# Altium integrated library ON Semi Triacs.IntLib: 233 symbols (part 1 of 5)
Pins are listed as number, name and electrical type; pins without a type are passive.

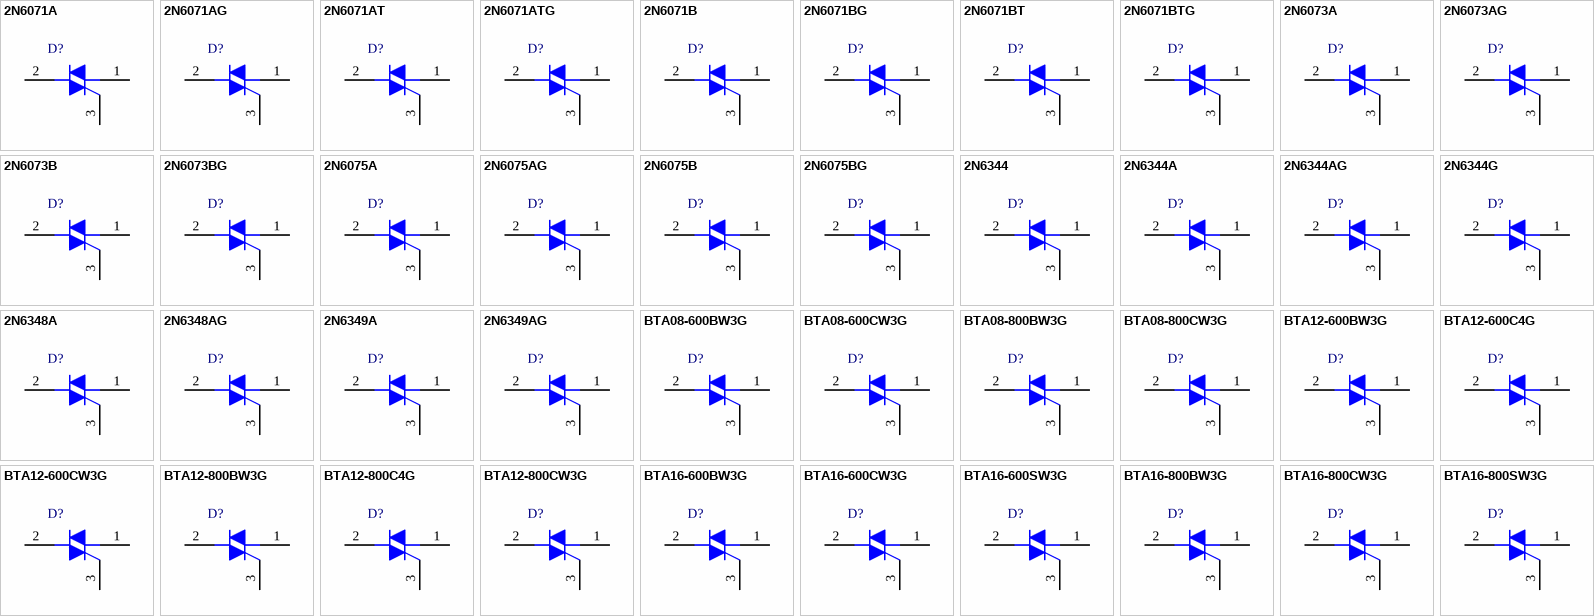
[diagram p0: symbols 2N6071A to BTA16-800SW3G]

## 2N6071A
designator D?
Sensitive Gate Triacs, Silicon Bidirectional Thyristor, 3-Pin TO-225, Bulk Box; Manufacturer: On Semiconductor; PartNumber: 2N6071A; IT(RMS) Max (A): 4; ITSM Max (A): 30; DatasheetVersion: Rev. 8; PackageVersion: Rev. Z; PackageReference: TO-225-3-77-09; PackageDescription: 3-Pin Flange Mount, Vertical Straight Lead, Body 7.62 x 2.54 mm, Pitch 2.39 mm; Packing: Bulk Box; Mounting Technology: Through Hole; ComponentLink1Description: Manufacturer URL; ComponentLink1URL: http://www.onsemi.com/; ComponentLink2Description: Datasheet; ComponentLink2URL: http://www.onsemi.com/pub_link/Collateral/2N6071-D.PDF; ComponentLink3Description: Package Specification; ComponentLink3URL: http://www.onsemi.cn/pub_link/Collateral/C106-D.PDF
footprint ONSC-TO-225-3-77-09_Z (FM, 3-Leads, Body 7.75x2.7mm, Pitch 2.39mm)
pins: 1 MT1, 2 MT2, 3 G

## 2N6071AG
designator D?
Sensitive Gate Triacs, Silicon Bidirectional Thyristor, 3-Pin TO-225, Pb-Free, Bulk Box; Manufacturer: On Semiconductor; PartNumber: 2N6071AG; IT(RMS) Max (A): 4; ITSM Max (A): 30; DatasheetVersion: Rev. 8; PackageVersion: Rev. Z; PackageReference: TO-225-3-77-09; PackageDescription: 3-Pin Flange Mount, Vertical Straight Lead, Body 7.62 x 2.54 mm, Pitch 2.39 mm; Supplier 1: Digi-Key; Supplier Part Number 1: 2N6071AGOS-ND; Supplier 2: Farnell; Supplier Part Number 2: 1459024; Supplier 3: Newark; Supplier Part Number 3: 26K5310; Supplier 4: Mouser; Supplier Part Number 4: 863-2N6071AG; Packing: Bulk Box; RoHS: Pb-Free; Mounting Technology: Through Hole; ComponentLink1Description: Manufacturer URL; ComponentLink1URL: http://www.onsemi.com/; ComponentLink2Description: Datasheet; ComponentLink2URL: http://www.onsemi.com/pub_link/Collateral/2N6071-D.PDF; ComponentLink3Description: Package Specification; ComponentLink3URL: http://www.onsemi.cn/pub_link/Collateral/C106-D.PDF
footprint ONSC-TO-225-3-77-09_Z (FM, 3-Leads, Body 7.75x2.7mm, Pitch 2.39mm)
pins: 1 MT1, 2 MT2, 3 G

## 2N6071AT
designator D?
Sensitive Gate Triacs, Silicon Bidirectional Thyristor, 3-Pin TO-225, Tube; Manufacturer: On Semiconductor; PartNumber: 2N6071AT; IT(RMS) Max (A): 4; ITSM Max (A): 30; DatasheetVersion: Rev. 8; PackageVersion: Rev. Z; PackageReference: TO-225-3-77-09; PackageDescription: 3-Pin Flange Mount, Vertical Straight Lead, Body 7.62 x 2.54 mm, Pitch 2.39 mm; Supplier 1: Mouser; Supplier Part Number 1: N/A; Packing: Tube; Mounting Technology: Through Hole; ComponentLink1Description: Manufacturer URL; ComponentLink1URL: http://www.onsemi.com/; ComponentLink2Description: Datasheet; ComponentLink2URL: http://www.onsemi.com/pub_link/Collateral/2N6071-D.PDF; ComponentLink3Description: Package Specification; ComponentLink3URL: http://www.onsemi.cn/pub_link/Collateral/C106-D.PDF
footprint ONSC-TO-225-3-77-09_Z (FM, 3-Leads, Body 7.75x2.7mm, Pitch 2.39mm)
pins: 1 MT1, 2 MT2, 3 G

## 2N6071ATG
designator D?
Sensitive Gate Triacs, Silicon Bidirectional Thyristor, 3-Pin TO-225, Pb-Free, Tube; Manufacturer: On Semiconductor; PartNumber: 2N6071ATG; IT(RMS) Max (A): 4; ITSM Max (A): 30; DatasheetVersion: Rev. 8; PackageVersion: Rev. Z; PackageReference: TO-225-3-77-09; PackageDescription: 3-Pin Flange Mount, Vertical Straight Lead, Body 7.62 x 2.54 mm, Pitch 2.39 mm; Supplier 1: Digi-Key; Supplier Part Number 1: 2N6071ATG-ND; Supplier 2: Newark; Supplier Part Number 2: 95M7953; Supplier 3: Mouser; Supplier Part Number 3: 863-2N6071ATG; Packing: Tube; RoHS: Pb-Free; Mounting Technology: Through Hole; ComponentLink1Description: Manufacturer URL; ComponentLink1URL: http://www.onsemi.com/; ComponentLink2Description: Datasheet; ComponentLink2URL: http://www.onsemi.com/pub_link/Collateral/2N6071-D.PDF; ComponentLink3Description: Package Specification; ComponentLink3URL: http://www.onsemi.cn/pub_link/Collateral/C106-D.PDF
footprint ONSC-TO-225-3-77-09_Z (FM, 3-Leads, Body 7.75x2.7mm, Pitch 2.39mm)
pins: 1 MT1, 2 MT2, 3 G

## 2N6071B
designator D?
Sensitive Gate Triacs, Silicon Bidirectional Thyristor, 3-Pin TO-225, Bulk Box; Manufacturer: On Semiconductor; PartNumber: 2N6071B; IT(RMS) Max (A): 4; ITSM Max (A): 30; DatasheetVersion: Rev. 8; PackageVersion: Rev. Z; PackageReference: TO-225-3-77-09; PackageDescription: 3-Pin Flange Mount, Vertical Straight Lead, Body 7.62 x 2.54 mm, Pitch 2.39 mm; Packing: Bulk Box; Mounting Technology: Through Hole; ComponentLink1Description: Manufacturer URL; ComponentLink1URL: http://www.onsemi.com/; ComponentLink2Description: Datasheet; ComponentLink2URL: http://www.onsemi.com/pub_link/Collateral/2N6071-D.PDF; ComponentLink3Description: Package Specification; ComponentLink3URL: http://www.onsemi.cn/pub_link/Collateral/C106-D.PDF
footprint ONSC-TO-225-3-77-09_Z (FM, 3-Leads, Body 7.75x2.7mm, Pitch 2.39mm)
pins: 1 MT1, 2 MT2, 3 G

## 2N6071BG
designator D?
Sensitive Gate Triacs, Silicon Bidirectional Thyristor, 3-Pin TO-225, Pb-Free, Bulk Box; Manufacturer: On Semiconductor; PartNumber: 2N6071BG; IT(RMS) Max (A): 4; ITSM Max (A): 30; DatasheetVersion: Rev. 8; PackageVersion: Rev. Z; PackageReference: TO-225-3-77-09; PackageDescription: 3-Pin Flange Mount, Vertical Straight Lead, Body 7.62 x 2.54 mm, Pitch 2.39 mm; Supplier 1: Digi-Key; Supplier Part Number 1: 2N6071BGOS-ND; Supplier 2: Farnell; Supplier Part Number 2: 1210035; Supplier 3: Newark; Supplier Part Number 3: 45J2502; Supplier 4: Mouser; Supplier Part Number 4: 863-2N6071BG; Packing: Bulk Box; RoHS: Pb-Free; Mounting Technology: Through Hole; ComponentLink1Description: Manufacturer URL; ComponentLink1URL: http://www.onsemi.com/; ComponentLink2Description: Datasheet; ComponentLink2URL: http://www.onsemi.com/pub_link/Collateral/2N6071-D.PDF; ComponentLink3Description: Package Specification; ComponentLink3URL: http://www.onsemi.cn/pub_link/Collateral/C106-D.PDF
footprint ONSC-TO-225-3-77-09_Z (FM, 3-Leads, Body 7.75x2.7mm, Pitch 2.39mm)
pins: 1 MT1, 2 MT2, 3 G

## 2N6071BT
designator D?
Sensitive Gate Triacs, Silicon Bidirectional Thyristor, 3-Pin TO-225, Tube; Manufacturer: On Semiconductor; PartNumber: 2N6071BT; IT(RMS) Max (A): 4; ITSM Max (A): 30; DatasheetVersion: Rev. 8; PackageVersion: Rev. Z; PackageReference: TO-225-3-77-09; PackageDescription: 3-Pin Flange Mount, Vertical Straight Lead, Body 7.62 x 2.54 mm, Pitch 2.39 mm; Supplier 1: Digi-Key; Supplier Part Number 1: 2N6071BT-ND; Packing: Tube; Mounting Technology: Through Hole; ComponentLink1Description: Manufacturer URL; ComponentLink1URL: http://www.onsemi.com/; ComponentLink2Description: Datasheet; ComponentLink2URL: http://www.onsemi.com/pub_link/Collateral/2N6071-D.PDF; ComponentLink3Description: Package Specification; ComponentLink3URL: http://www.onsemi.cn/pub_link/Collateral/C106-D.PDF
footprint ONSC-TO-225-3-77-09_Z (FM, 3-Leads, Body 7.75x2.7mm, Pitch 2.39mm)
pins: 1 MT1, 2 MT2, 3 G

## 2N6071BTG
designator D?
Sensitive Gate Triacs, Silicon Bidirectional Thyristor, 3-Pin TO-225, Pb-Free, Tube; Manufacturer: On Semiconductor; PartNumber: 2N6071BTG; IT(RMS) Max (A): 4; ITSM Max (A): 30; DatasheetVersion: Rev. 8; PackageVersion: Rev. Z; PackageReference: TO-225-3-77-09; PackageDescription: 3-Pin Flange Mount, Vertical Straight Lead, Body 7.62 x 2.54 mm, Pitch 2.39 mm; Supplier 1: Digi-Key; Supplier Part Number 1: 2N6071BTG-ND; Supplier 2: Newark; Supplier Part Number 2: 42K3167; Supplier 3: Mouser; Supplier Part Number 3: 863-2N6071BTG; Packing: Tube; RoHS: Pb-Free; Mounting Technology: Through Hole; ComponentLink1Description: Manufacturer URL; ComponentLink1URL: http://www.onsemi.com/; ComponentLink2Description: Datasheet; ComponentLink2URL: http://www.onsemi.com/pub_link/Collateral/2N6071-D.PDF; ComponentLink3Description: Package Specification; ComponentLink3URL: http://www.onsemi.cn/pub_link/Collateral/C106-D.PDF
footprint ONSC-TO-225-3-77-09_Z (FM, 3-Leads, Body 7.75x2.7mm, Pitch 2.39mm)
pins: 1 MT1, 2 MT2, 3 G

## 2N6073A
designator D?
Sensitive Gate Triacs, Silicon Bidirectional Thyristor, 3-Pin TO-225, Bulk Box; Manufacturer: On Semiconductor; PartNumber: 2N6073A; IT(RMS) Max (A): 4; ITSM Max (A): 30; DatasheetVersion: Rev. 8; PackageVersion: Rev. Z; PackageReference: TO-225-3-77-09; PackageDescription: 3-Pin Flange Mount, Vertical Straight Lead, Body 7.62 x 2.54 mm, Pitch 2.39 mm; Packing: Bulk Box; Mounting Technology: Through Hole; ComponentLink1Description: Manufacturer URL; ComponentLink1URL: http://www.onsemi.com/; ComponentLink2Description: Datasheet; ComponentLink2URL: http://www.onsemi.com/pub_link/Collateral/2N6071-D.PDF; ComponentLink3Description: Package Specification; ComponentLink3URL: http://www.onsemi.cn/pub_link/Collateral/C106-D.PDF
footprint ONSC-TO-225-3-77-09_Z (FM, 3-Leads, Body 7.75x2.7mm, Pitch 2.39mm)
pins: 1 MT1, 2 MT2, 3 G

## 2N6073AG
designator D?
Sensitive Gate Triacs, Silicon Bidirectional Thyristor, 3-Pin TO-225, Pb-Free, Bulk Box; Manufacturer: On Semiconductor; PartNumber: 2N6073AG; IT(RMS) Max (A): 4; ITSM Max (A): 30; DatasheetVersion: Rev. 8; PackageVersion: Rev. Z; PackageReference: TO-225-3-77-09; PackageDescription: 3-Pin Flange Mount, Vertical Straight Lead, Body 7.62 x 2.54 mm, Pitch 2.39 mm; Supplier 1: Digi-Key; Supplier Part Number 1: 2N6073AGOS-ND; Supplier 2: Farnell; Supplier Part Number 2: 9556559; Supplier 3: Newark; Supplier Part Number 3: 26K5311; Supplier 4: Mouser; Supplier Part Number 4: 863-2N6073AG; Packing: Bulk Box; RoHS: Pb-Free; Mounting Technology: Through Hole; ComponentLink1Description: Manufacturer URL; ComponentLink1URL: http://www.onsemi.com/; ComponentLink2Description: Datasheet; ComponentLink2URL: http://www.onsemi.com/pub_link/Collateral/2N6071-D.PDF; ComponentLink3Description: Package Specification; ComponentLink3URL: http://www.onsemi.cn/pub_link/Collateral/C106-D.PDF
footprint ONSC-TO-225-3-77-09_Z (FM, 3-Leads, Body 7.75x2.7mm, Pitch 2.39mm)
pins: 1 MT1, 2 MT2, 3 G

## 2N6073B
designator D?
Sensitive Gate Triacs, Silicon Bidirectional Thyristor, 3-Pin TO-225, Bulk Box; Manufacturer: On Semiconductor; PartNumber: 2N6073B; IT(RMS) Max (A): 4; ITSM Max (A): 30; DatasheetVersion: Rev. 8; PackageVersion: Rev. Z; PackageReference: TO-225-3-77-09; PackageDescription: 3-Pin Flange Mount, Vertical Straight Lead, Body 7.62 x 2.54 mm, Pitch 2.39 mm; Packing: Bulk Box; Mounting Technology: Through Hole; ComponentLink1Description: Manufacturer URL; ComponentLink1URL: http://www.onsemi.com/; ComponentLink2Description: Datasheet; ComponentLink2URL: http://www.onsemi.com/pub_link/Collateral/2N6071-D.PDF; ComponentLink3Description: Package Specification; ComponentLink3URL: http://www.onsemi.cn/pub_link/Collateral/C106-D.PDF
footprint ONSC-TO-225-3-77-09_Z (FM, 3-Leads, Body 7.75x2.7mm, Pitch 2.39mm)
pins: 1 MT1, 2 MT2, 3 G

## 2N6073BG
designator D?
Sensitive Gate Triacs, Silicon Bidirectional Thyristor, 3-Pin TO-225, Pb-Free, Bulk Box; Manufacturer: On Semiconductor; PartNumber: 2N6073BG; IT(RMS) Max (A): 4; ITSM Max (A): 30; DatasheetVersion: Rev. 8; PackageVersion: Rev. Z; PackageReference: TO-225-3-77-09; PackageDescription: 3-Pin Flange Mount, Vertical Straight Lead, Body 7.62 x 2.54 mm, Pitch 2.39 mm; Supplier 1: Digi-Key; Supplier Part Number 1: 2N6073BGOS-ND; Supplier 2: Farnell; Supplier Part Number 2: 1126534; Supplier 3: Newark; Supplier Part Number 3: 45J2503; Supplier 4: Mouser; Supplier Part Number 4: 863-2N6073BG; Packing: Bulk Box; RoHS: Pb-Free; Mounting Technology: Through Hole; ComponentLink1Description: Manufacturer URL; ComponentLink1URL: http://www.onsemi.com/; ComponentLink2Description: Datasheet; ComponentLink2URL: http://www.onsemi.com/pub_link/Collateral/2N6071-D.PDF; ComponentLink3Description: Package Specification; ComponentLink3URL: http://www.onsemi.cn/pub_link/Collateral/C106-D.PDF
footprint ONSC-TO-225-3-77-09_Z (FM, 3-Leads, Body 7.75x2.7mm, Pitch 2.39mm)
pins: 1 MT1, 2 MT2, 3 G

## 2N6075A
designator D?
Sensitive Gate Triacs, Silicon Bidirectional Thyristor, 3-Pin TO-225, Bulk Box; Manufacturer: On Semiconductor; PartNumber: 2N6075A; IT(RMS) Max (A): 4; ITSM Max (A): 30; DatasheetVersion: Rev. 8; PackageVersion: Rev. Z; PackageReference: TO-225-3-77-09; PackageDescription: 3-Pin Flange Mount, Vertical Straight Lead, Body 7.62 x 2.54 mm, Pitch 2.39 mm; Packing: Bulk Box; Mounting Technology: Through Hole; ComponentLink1Description: Manufacturer URL; ComponentLink1URL: http://www.onsemi.com/; ComponentLink2Description: Datasheet; ComponentLink2URL: http://www.onsemi.com/pub_link/Collateral/2N6071-D.PDF; ComponentLink3Description: Package Specification; ComponentLink3URL: http://www.onsemi.cn/pub_link/Collateral/C106-D.PDF
footprint ONSC-TO-225-3-77-09_Z (FM, 3-Leads, Body 7.75x2.7mm, Pitch 2.39mm)
pins: 1 MT1, 2 MT2, 3 G

## 2N6075AG
designator D?
Sensitive Gate Triacs, Silicon Bidirectional Thyristor, 3-Pin TO-225, Pb-Free, Bulk Box; Manufacturer: On Semiconductor; PartNumber: 2N6075AG; IT(RMS) Max (A): 4; ITSM Max (A): 30; DatasheetVersion: Rev. 8; PackageVersion: Rev. Z; PackageReference: TO-225-3-77-09; PackageDescription: 3-Pin Flange Mount, Vertical Straight Lead, Body 7.62 x 2.54 mm, Pitch 2.39 mm; Supplier 1: Digi-Key; Supplier Part Number 1: 2N6075AGOS-ND; Supplier 2: Farnell; Supplier Part Number 2: 9556567; Supplier 3: Newark; Supplier Part Number 3: 45J2504; Supplier 4: Mouser; Supplier Part Number 4: 863-2N6075AG; Packing: Bulk Box; RoHS: Pb-Free; Mounting Technology: Through Hole; ComponentLink1Description: Manufacturer URL; ComponentLink1URL: http://www.onsemi.com/; ComponentLink2Description: Datasheet; ComponentLink2URL: http://www.onsemi.com/pub_link/Collateral/2N6071-D.PDF; ComponentLink3Description: Package Specification; ComponentLink3URL: http://www.onsemi.cn/pub_link/Collateral/C106-D.PDF
footprint ONSC-TO-225-3-77-09_Z (FM, 3-Leads, Body 7.75x2.7mm, Pitch 2.39mm)
pins: 1 MT1, 2 MT2, 3 G

## 2N6075B
designator D?
Sensitive Gate Triacs, Silicon Bidirectional Thyristor, 3-Pin TO-225, Bulk Box; Manufacturer: On Semiconductor; PartNumber: 2N6075B; IT(RMS) Max (A): 4; ITSM Max (A): 30; DatasheetVersion: Rev. 8; PackageVersion: Rev. Z; PackageReference: TO-225-3-77-09; PackageDescription: 3-Pin Flange Mount, Vertical Straight Lead, Body 7.62 x 2.54 mm, Pitch 2.39 mm; Packing: Bulk Box; Mounting Technology: Through Hole; ComponentLink1Description: Manufacturer URL; ComponentLink1URL: http://www.onsemi.com/; ComponentLink2Description: Datasheet; ComponentLink2URL: http://www.onsemi.com/pub_link/Collateral/2N6071-D.PDF; ComponentLink3Description: Package Specification; ComponentLink3URL: http://www.onsemi.cn/pub_link/Collateral/C106-D.PDF
footprint ONSC-TO-225-3-77-09_Z (FM, 3-Leads, Body 7.75x2.7mm, Pitch 2.39mm)
pins: 1 MT1, 2 MT2, 3 G

## 2N6075BG
designator D?
Sensitive Gate Triacs, Silicon Bidirectional Thyristor, 3-Pin TO-225, Pb-Free, Bulk Box; Manufacturer: On Semiconductor; PartNumber: 2N6075BG; IT(RMS) Max (A): 4; ITSM Max (A): 30; DatasheetVersion: Rev. 8; PackageVersion: Rev. Z; PackageReference: TO-225-3-77-09; PackageDescription: 3-Pin Flange Mount, Vertical Straight Lead, Body 7.62 x 2.54 mm, Pitch 2.39 mm; Supplier 1: Digi-Key; Supplier Part Number 1: 2N6075BGOS-ND; Supplier 2: Farnell; Supplier Part Number 2: 9557229; Supplier 3: Newark; Supplier Part Number 3: 26K5312; Supplier 4: Mouser; Supplier Part Number 4: 863-2N6075BG; Packing: Bulk Box; RoHS: Pb-Free; Mounting Technology: Through Hole; ComponentLink1Description: Manufacturer URL; ComponentLink1URL: http://www.onsemi.com/; ComponentLink2Description: Datasheet; ComponentLink2URL: http://www.onsemi.com/pub_link/Collateral/2N6071-D.PDF; ComponentLink3Description: Package Specification; ComponentLink3URL: http://www.onsemi.cn/pub_link/Collateral/C106-D.PDF
footprint ONSC-TO-225-3-77-09_Z (FM, 3-Leads, Body 7.75x2.7mm, Pitch 2.39mm)
pins: 1 MT1, 2 MT2, 3 G

## 2N6344
designator D?
Triacs, Silicon Bidirectional Thyristor, 3-Pin TO-220, Bulk Box; Manufacturer: On Semiconductor; PartNumber: 2N6344; ITSM Max (A): 100; DatasheetVersion: Rev. 4; PackageVersion: Rev. O, 07/2008; PackageReference: TO-220-3-221A-07; PackageDescription: 3-Pin Flange Mount, Vertical Straight Lead, Body 9.97 x 4.445 mm, Pitch 2.54 mm; Packing: Bulk Box; Mounting Technology: Through Hole; ComponentLink1Description: Manufacturer URL; ComponentLink1URL: http://www.onsemi.com/; ComponentLink2Description: Datasheet; ComponentLink2URL: http://www.onsemi.com/pub_link/Collateral/2N6344-D.PDF; ComponentLink3Description: Package Specification; ComponentLink3URL: http://www.onsemi.com/pub_link/Collateral/221A-07.PDF
footprint ONSC-TO-220-3-221A-07 (FM, 3-Leads, Body 10.3x4.85mm, Pitch 2.54mm)
pins: 1 MT1, 2 MT2, 3 G

## 2N6344A
designator D?
Triacs, Silicon Bidirectional Thyristor, 3-Pin TO-220, Bulk Box; Manufacturer: On Semiconductor; PartNumber: 2N6344A; ITSM Max (A): 100; DatasheetVersion: Rev. 4; PackageVersion: Rev. O, 07/2008; PackageReference: TO-220-3-221A-07; PackageDescription: 3-Pin Flange Mount, Vertical Straight Lead, Body 9.97 x 4.445 mm, Pitch 2.54 mm; Packing: Bulk Box; Mounting Technology: Through Hole; ComponentLink1Description: Manufacturer URL; ComponentLink1URL: http://www.onsemi.com/; ComponentLink2Description: Datasheet; ComponentLink2URL: http://www.onsemi.com/pub_link/Collateral/2N6344A-D.PDF; ComponentLink3Description: Package Specification; ComponentLink3URL: http://www.onsemi.com/pub_link/Collateral/221A-07.PDF
footprint ONSC-TO-220-3-221A-07 (FM, 3-Leads, Body 10.3x4.85mm, Pitch 2.54mm)
pins: 1 MT1, 2 MT2, 3 G

## 2N6344AG
designator D?
Triacs, Silicon Bidirectional Thyristor, 3-Pin TO-220, Pb-Free, Bulk Box; Manufacturer: On Semiconductor; PartNumber: 2N6344AG; ITSM Max (A): 100; DatasheetVersion: Rev. 4; PackageVersion: Rev. O, 07/2008; PackageReference: TO-220-3-221A-07; PackageDescription: 3-Pin Flange Mount, Vertical Straight Lead, Body 9.97 x 4.445 mm, Pitch 2.54 mm; Supplier 1: Digi-Key; Supplier Part Number 1: 2N6344AGOS-ND; Supplier 2: Farnell; Supplier Part Number 2: 1454634; Supplier 3: Newark; Supplier Part Number 3: 42K3172; Supplier 4: Mouser; Supplier Part Number 4: 863-2N6344AG; Packing: Bulk Box; RoHS: Pb-Free; Mounting Technology: Through Hole; ComponentLink1Description: Manufacturer URL; ComponentLink1URL: http://www.onsemi.com/; ComponentLink2Description: Datasheet; ComponentLink2URL: http://www.onsemi.com/pub_link/Collateral/2N6344A-D.PDF; ComponentLink3Description: Package Specification; ComponentLink3URL: http://www.onsemi.com/pub_link/Collateral/221A-07.PDF
footprint ONSC-TO-220-3-221A-07 (FM, 3-Leads, Body 10.3x4.85mm, Pitch 2.54mm)
pins: 1 MT1, 2 MT2, 3 G

## 2N6344G
designator D?
Triacs, Silicon Bidirectional Thyristor, 3-Pin TO-220, Pb-Free, Bulk Box; Manufacturer: On Semiconductor; PartNumber: 2N6344G; ITSM Max (A): 100; DatasheetVersion: Rev. 4; PackageVersion: Rev. O, 07/2008; PackageReference: TO-220-3-221A-07; PackageDescription: 3-Pin Flange Mount, Vertical Straight Lead, Body 9.97 x 4.445 mm, Pitch 2.54 mm; Supplier 1: Digi-Key; Supplier Part Number 1: 2N6344GOS-ND; Supplier 2: Farnell; Supplier Part Number 2: 1716565; Supplier 3: Newark; Supplier Part Number 3: 42K3173; Supplier 4: Mouser; Supplier Part Number 4: 863-2N6344G; Packing: Bulk Box; RoHS: Pb-Free; Mounting Technology: Through Hole; ComponentLink1Description: Manufacturer URL; ComponentLink1URL: http://www.onsemi.com/; ComponentLink2Description: Datasheet; ComponentLink2URL: http://www.onsemi.com/pub_link/Collateral/2N6344-D.PDF; ComponentLink3Description: Package Specification; ComponentLink3URL: http://www.onsemi.com/pub_link/Collateral/221A-07.PDF
footprint ONSC-TO-220-3-221A-07 (FM, 3-Leads, Body 10.3x4.85mm, Pitch 2.54mm)
pins: 1 MT1, 2 MT2, 3 G

## 2N6348A
designator D?
Triacs, Silicon Bidirectional Thyristor, 3-Pin TO-220, Bulk Box; Manufacturer: On Semiconductor; PartNumber: 2N6348A; ITSM Max (A): 100; DatasheetVersion: Rev. 4; PackageVersion: Rev. O, 07/2008; PackageReference: TO-220-3-221A-07; PackageDescription: 3-Pin Flange Mount, Vertical Straight Lead, Body 9.97 x 4.445 mm, Pitch 2.54 mm; Packing: Bulk Box; Mounting Technology: Through Hole; ComponentLink1Description: Manufacturer URL; ComponentLink1URL: http://www.onsemi.com/; ComponentLink2Description: Datasheet; ComponentLink2URL: http://www.onsemi.com/pub_link/Collateral/2N6344A-D.PDF; ComponentLink3Description: Package Specification; ComponentLink3URL: http://www.onsemi.com/pub_link/Collateral/221A-07.PDF
footprint ONSC-TO-220-3-221A-07 (FM, 3-Leads, Body 10.3x4.85mm, Pitch 2.54mm)
pins: 1 MT1, 2 MT2, 3 G

## 2N6348AG
designator D?
Triacs, Silicon Bidirectional Thyristor, 3-Pin TO-220, Pb-Free, Bulk Box; Manufacturer: On Semiconductor; PartNumber: 2N6348AG; ITSM Max (A): 100; DatasheetVersion: Rev. 4; PackageVersion: Rev. O, 07/2008; PackageReference: TO-220-3-221A-07; PackageDescription: 3-Pin Flange Mount, Vertical Straight Lead, Body 9.97 x 4.445 mm, Pitch 2.54 mm; Supplier 1: Digi-Key; Supplier Part Number 1: 2N6348AGOS-ND; Supplier 2: Farnell; Supplier Part Number 2: 1360709; Supplier 3: Newark; Supplier Part Number 3: 42K3174; Supplier 4: Mouser; Supplier Part Number 4: 863-2N6348AG; Packing: Bulk Box; RoHS: Pb-Free; Mounting Technology: Through Hole; ComponentLink1Description: Manufacturer URL; ComponentLink1URL: http://www.onsemi.com/; ComponentLink2Description: Datasheet; ComponentLink2URL: http://www.onsemi.com/pub_link/Collateral/2N6344A-D.PDF; ComponentLink3Description: Package Specification; ComponentLink3URL: http://www.onsemi.com/pub_link/Collateral/221A-07.PDF
footprint ONSC-TO-220-3-221A-07 (FM, 3-Leads, Body 10.3x4.85mm, Pitch 2.54mm)
pins: 1 MT1, 2 MT2, 3 G

## 2N6349A
designator D?
Triacs, Silicon Bidirectional Thyristor, 3-Pin TO-220, Bulk Box; Manufacturer: On Semiconductor; PartNumber: 2N6349A; ITSM Max (A): 100; DatasheetVersion: Rev. 4; PackageVersion: Rev. O, 07/2008; PackageReference: TO-220-3-221A-07; PackageDescription: 3-Pin Flange Mount, Vertical Straight Lead, Body 9.97 x 4.445 mm, Pitch 2.54 mm; Packing: Bulk Box; Mounting Technology: Through Hole; ComponentLink1Description: Manufacturer URL; ComponentLink1URL: http://www.onsemi.com/; ComponentLink2Description: Datasheet; ComponentLink2URL: http://www.onsemi.com/pub_link/Collateral/2N6344A-D.PDF; ComponentLink3Description: Package Specification; ComponentLink3URL: http://www.onsemi.com/pub_link/Collateral/221A-07.PDF
footprint ONSC-TO-220-3-221A-07 (FM, 3-Leads, Body 10.3x4.85mm, Pitch 2.54mm)
pins: 1 MT1, 2 MT2, 3 G

## 2N6349AG
designator D?
Triacs, Silicon Bidirectional Thyristor, 3-Pin TO-220, Pb-Free, Bulk Box; Manufacturer: On Semiconductor; PartNumber: 2N6349AG; ITSM Max (A): 100; DatasheetVersion: Rev. 4; PackageVersion: Rev. O, 07/2008; PackageReference: TO-220-3-221A-07; PackageDescription: 3-Pin Flange Mount, Vertical Straight Lead, Body 9.97 x 4.445 mm, Pitch 2.54 mm; Supplier 1: Digi-Key; Supplier Part Number 1: 2N6349AGOS-ND; Supplier 2: Farnell; Supplier Part Number 2: 1360710; Supplier 3: Newark; Supplier Part Number 3: 42K3175; Supplier 4: Mouser; Supplier Part Number 4: 863-2N6349AG; Packing: Bulk Box; RoHS: Pb-Free; Mounting Technology: Through Hole; ComponentLink1Description: Manufacturer URL; ComponentLink1URL: http://www.onsemi.com/; ComponentLink2Description: Datasheet; ComponentLink2URL: http://www.onsemi.com/pub_link/Collateral/2N6344A-D.PDF; ComponentLink3Description: Package Specification; ComponentLink3URL: http://www.onsemi.com/pub_link/Collateral/221A-07.PDF
footprint ONSC-TO-220-3-221A-07 (FM, 3-Leads, Body 10.3x4.85mm, Pitch 2.54mm)
pins: 1 MT1, 2 MT2, 3 G

## BTA08-600BW3G
designator D?
Triacs, Silicon Bidirectional Thyristor, 3-Pin TO-220, Pb-Free, Tube; Manufacturer: On Semiconductor; PartNumber: BTA08-600BW3G; IGT Max (mA): 50; IT(RMS) Max (A): 8; ITSM Max (A): 90; DatasheetVersion: Rev. 1; PackageVersion: Rev. O, 07/2008; PackageReference: TO-220-3-221A-07; PackageDescription: 3-Pin Flange Mount, Vertical Straight Lead, Body 9.97 x 4.445 mm, Pitch 2.54 mm; Supplier 1: Digi-Key; Supplier Part Number 1: BTA08-600BW3G-ND; Supplier 2: Newark; Supplier Part Number 2: 13P2072; Supplier 3: Mouser; Supplier Part Number 3: 863-BTA08-600BW3G; Packing: Tube; RoHS: Pb-Free; Mounting Technology: Through Hole; ComponentLink1Description: Manufacturer URL; ComponentLink1URL: http://www.onsemi.com/; ComponentLink2Description: Datasheet; ComponentLink2URL: http://www.onsemi.com/pub_link/Collateral/BTA08-600BW3-D.PDF; ComponentLink3Description: Package Specification; ComponentLink3URL: http://www.onsemi.com/pub_link/Collateral/221A-07.PDF
footprint ONSC-TO-220-3-221A-07 (FM, 3-Leads, Body 10.3x4.85mm, Pitch 2.54mm)
pins: 1 MT1, 2 MT2, 3 G

## BTA08-600CW3G
designator D?
Triacs, Silicon Bidirectional Thyristor, 3-Pin TO-220, Pb-Free, Tube; Manufacturer: On Semiconductor; PartNumber: BTA08-600CW3G; IGT Max (mA): 35; IT(RMS) Max (A): 8; ITSM Max (A): 90; DatasheetVersion: Rev. 1; PackageVersion: Rev. O, 07/2008; PackageReference: TO-220-3-221A-07; PackageDescription: 3-Pin Flange Mount, Vertical Straight Lead, Body 9.97 x 4.445 mm, Pitch 2.54 mm; Supplier 1: Digi-Key; Supplier Part Number 1: BTA08-600CW3G-ND; Supplier 2: Newark; Supplier Part Number 2: 13P2073; Supplier 3: Mouser; Supplier Part Number 3: 863-BTA08-600CW3G; Packing: Tube; RoHS: Pb-Free; Mounting Technology: Through Hole; ComponentLink1Description: Manufacturer URL; ComponentLink1URL: http://www.onsemi.com/; ComponentLink2Description: Datasheet; ComponentLink2URL: http://www.onsemi.com/pub_link/Collateral/BTA08-600CW3-D.PDF; ComponentLink3Description: Package Specification; ComponentLink3URL: http://www.onsemi.com/pub_link/Collateral/221A-07.PDF
footprint ONSC-TO-220-3-221A-07 (FM, 3-Leads, Body 10.3x4.85mm, Pitch 2.54mm)
pins: 1 MT1, 2 MT2, 3 G

## BTA08-800BW3G
designator D?
Triacs, Silicon Bidirectional Thyristor, 3-Pin TO-220, Pb-Free, Tube; Manufacturer: On Semiconductor; PartNumber: BTA08-800BW3G; IGT Max (mA): 50; IT(RMS) Max (A): 8; ITSM Max (A): 90; DatasheetVersion: Rev. 1; PackageVersion: Rev. O, 07/2008; PackageReference: TO-220-3-221A-07; PackageDescription: 3-Pin Flange Mount, Vertical Straight Lead, Body 9.97 x 4.445 mm, Pitch 2.54 mm; Supplier 1: Digi-Key; Supplier Part Number 1: BTA08-800BW3G-ND; Supplier 2: Newark; Supplier Part Number 2: 13P2074; Supplier 3: Mouser; Supplier Part Number 3: 863-BTA08-800BW3G; Packing: Tube; RoHS: Pb-Free; Mounting Technology: Through Hole; ComponentLink1Description: Manufacturer URL; ComponentLink1URL: http://www.onsemi.com/; ComponentLink2Description: Datasheet; ComponentLink2URL: http://www.onsemi.com/pub_link/Collateral/BTA08-600BW3-D.PDF; ComponentLink3Description: Package Specification; ComponentLink3URL: http://www.onsemi.com/pub_link/Collateral/221A-07.PDF
footprint ONSC-TO-220-3-221A-07 (FM, 3-Leads, Body 10.3x4.85mm, Pitch 2.54mm)
pins: 1 MT1, 2 MT2, 3 G

## BTA08-800CW3G
designator D?
Triacs, Silicon Bidirectional Thyristor, 3-Pin TO-220, Pb-Free, Tube; Manufacturer: On Semiconductor; PartNumber: BTA08-800CW3G; IGT Max (mA): 35; IT(RMS) Max (A): 8; ITSM Max (A): 90; DatasheetVersion: Rev. 0; PackageVersion: Rev. O, 07/2008; PackageReference: TO-220-3-221A-07; PackageDescription: 3-Pin Flange Mount, Vertical Straight Lead, Body 9.97 x 4.445 mm, Pitch 2.54 mm; Supplier 1: Digi-Key; Supplier Part Number 1: BTA08-800CW3G-ND; Supplier 2: Newark; Supplier Part Number 2: 13P2075; Supplier 3: Mouser; Supplier Part Number 3: 863-BTA08-800CW3G; Packing: Tube; RoHS: Pb-Free; Mounting Technology: Through Hole; ComponentLink1Description: Manufacturer URL; ComponentLink1URL: http://www.onsemi.com/; ComponentLink2Description: Datasheet; ComponentLink2URL: http://www.onsemi.com/pub_link/Collateral/BTA08-800CW3-D.PDF; ComponentLink3Description: Package Specification; ComponentLink3URL: http://www.onsemi.com/pub_link/Collateral/221A-07.PDF
footprint ONSC-TO-220-3-221A-07 (FM, 3-Leads, Body 10.3x4.85mm, Pitch 2.54mm)
pins: 1 MT1, 2 MT2, 3 G

## BTA12-600BW3G
designator D?
Triacs, Silicon Bidirectional Thyristor, 3-Pin TO-220, Pb-Free, Tube; Manufacturer: On Semiconductor; PartNumber: BTA12-600BW3G; IGT Max (mA): 50; IT(RMS) Max (A): 12; ITSM Max (A): 105; DatasheetVersion: Rev. 1; PackageVersion: Rev. O, 07/2008; PackageReference: TO-220-3-221A-07; PackageDescription: 3-Pin Flange Mount, Vertical Straight Lead, Body 9.97 x 4.445 mm, Pitch 2.54 mm; Supplier 1: Digi-Key; Supplier Part Number 1: BTA12-600BW3GOS-ND; Supplier 2: Farnell; Supplier Part Number 2: 2317531; Supplier 3: Newark; Supplier Part Number 3: 90W4277; Supplier 4: Newark; Supplier Part Number 4: 13P2076; Supplier 5: Mouser; Supplier Part Number 5: 863-BTA12-600BW3G; Packing: Tube; RoHS: Pb-Free; Mounting Technology: Through Hole; ComponentLink1Description: Manufacturer URL; ComponentLink1URL: http://www.onsemi.com/; ComponentLink2Description: Datasheet; ComponentLink2URL: http://www.onsemi.com/pub_link/Collateral/BTA12-600BW3-D.PDF; ComponentLink3Description: Package Specification; ComponentLink3URL: http://www.onsemi.com/pub_link/Collateral/221A-07.PDF
footprint ONSC-TO-220-3-221A-07 (FM, 3-Leads, Body 10.3x4.85mm, Pitch 2.54mm)
pins: 1 MT1, 2 MT2, 3 G

## BTA12-600C4G
designator D?
Triacs, Silicon Bidirectional Thyristor, 3-Pin TO-220, Pb-Free, Tube; Manufacturer: On Semiconductor; PartNumber: BTA12-600C4G; IT(RMS) Max (A): 12; ITSM Max (A): 120; DatasheetVersion: Rev. 1; PackageVersion: Rev. O, 07/2008; PackageReference: TO-220-3-221A-07; PackageDescription: 3-Pin Flange Mount, Vertical Straight Lead, Body 9.97 x 4.445 mm, Pitch 2.54 mm; Packing: Tube; RoHS: Pb-Free; Mounting Technology: Through Hole; ComponentLink1Description: Manufacturer URL; ComponentLink1URL: http://www.onsemi.com/; ComponentLink2Description: Datasheet; ComponentLink2URL: http://www.onsemi.com/pub_link/Collateral/BTA12-600C4-D.PDF; ComponentLink3Description: Package Specification; ComponentLink3URL: http://www.onsemi.com/pub_link/Collateral/221A-07.PDF
footprint ONSC-TO-220-3-221A-07 (FM, 3-Leads, Body 10.3x4.85mm, Pitch 2.54mm)
pins: 1 MT1, 2 MT2, 3 G

## BTA12-600CW3G
designator D?
Triacs, Silicon Bidirectional Thyristor, 3-Pin TO-220, Pb-Free, Tube; Manufacturer: On Semiconductor; PartNumber: BTA12-600CW3G; IGT Max (mA): 35; IT(RMS) Max (A): 12; ITSM Max (A): 105; DatasheetVersion: Rev. 1; PackageVersion: Rev. O, 07/2008; PackageReference: TO-220-3-221A-07; PackageDescription: 3-Pin Flange Mount, Vertical Straight Lead, Body 9.97 x 4.445 mm, Pitch 2.54 mm; Supplier 1: Digi-Key; Supplier Part Number 1: BTA12-600CW3G-ND; Supplier 2: Newark; Supplier Part Number 2: 13P2077; Supplier 3: Mouser; Supplier Part Number 3: 863-BTA12-600CW3G; Packing: Tube; RoHS: Pb-Free; Mounting Technology: Through Hole; ComponentLink1Description: Manufacturer URL; ComponentLink1URL: http://www.onsemi.com/; ComponentLink2Description: Datasheet; ComponentLink2URL: http://www.onsemi.com/pub_link/Collateral/BTA12-600CW3-D.PDF; ComponentLink3Description: Package Specification; ComponentLink3URL: http://www.onsemi.com/pub_link/Collateral/221A-07.PDF
footprint ONSC-TO-220-3-221A-07 (FM, 3-Leads, Body 10.3x4.85mm, Pitch 2.54mm)
pins: 1 MT1, 2 MT2, 3 G

## BTA12-800BW3G
designator D?
Triacs, Silicon Bidirectional Thyristor, 3-Pin TO-220, Pb-Free, Tube; Manufacturer: On Semiconductor; PartNumber: BTA12-800BW3G; IGT Max (mA): 50; IT(RMS) Max (A): 12; ITSM Max (A): 105; DatasheetVersion: Rev. 1; PackageVersion: Rev. O, 07/2008; PackageReference: TO-220-3-221A-07; PackageDescription: 3-Pin Flange Mount, Vertical Straight Lead, Body 9.97 x 4.445 mm, Pitch 2.54 mm; Supplier 1: Digi-Key; Supplier Part Number 1: BTA12-800BW3G-ND; Supplier 2: Newark; Supplier Part Number 2: 13P2078; Supplier 3: Mouser; Supplier Part Number 3: 863-BTA12-800BW3G; Packing: Tube; RoHS: Pb-Free; Mounting Technology: Through Hole; ComponentLink1Description: Manufacturer URL; ComponentLink1URL: http://www.onsemi.com/; ComponentLink2Description: Datasheet; ComponentLink2URL: http://www.onsemi.com/pub_link/Collateral/BTA12-600BW3-D.PDF; ComponentLink3Description: Package Specification; ComponentLink3URL: http://www.onsemi.com/pub_link/Collateral/221A-07.PDF
footprint ONSC-TO-220-3-221A-07 (FM, 3-Leads, Body 10.3x4.85mm, Pitch 2.54mm)
pins: 1 MT1, 2 MT2, 3 G

## BTA12-800C4G
designator D?
Triacs, Silicon Bidirectional Thyristor, 3-Pin TO-220, Pb-Free, Tube; Manufacturer: On Semiconductor; PartNumber: BTA12-800C4G; IT(RMS) Max (A): 12; ITSM Max (A): 120; DatasheetVersion: Rev. 1; PackageVersion: Rev. O, 07/2008; PackageReference: TO-220-3-221A-07; PackageDescription: 3-Pin Flange Mount, Vertical Straight Lead, Body 9.97 x 4.445 mm, Pitch 2.54 mm; Packing: Tube; RoHS: Pb-Free; Mounting Technology: Through Hole; ComponentLink1Description: Manufacturer URL; ComponentLink1URL: http://www.onsemi.com/; ComponentLink2Description: Datasheet; ComponentLink2URL: http://www.onsemi.com/pub_link/Collateral/BTA12-600C4-D.PDF; ComponentLink3Description: Package Specification; ComponentLink3URL: http://www.onsemi.com/pub_link/Collateral/221A-07.PDF
footprint ONSC-TO-220-3-221A-07 (FM, 3-Leads, Body 10.3x4.85mm, Pitch 2.54mm)
pins: 1 MT1, 2 MT2, 3 G

## BTA12-800CW3G
designator D?
Triacs, Silicon Bidirectional Thyristor, 3-Pin TO-220, Pb-Free, Tube; Manufacturer: On Semiconductor; PartNumber: BTA12-800CW3G; IGT Max (mA): 35; IT(RMS) Max (A): 12; ITSM Max (A): 105; DatasheetVersion: Rev. 1; PackageVersion: Rev. O, 07/2008; PackageReference: TO-220-3-221A-07; PackageDescription: 3-Pin Flange Mount, Vertical Straight Lead, Body 9.97 x 4.445 mm, Pitch 2.54 mm; Supplier 1: Digi-Key; Supplier Part Number 1: BTA12-800CW3G-ND; Supplier 2: Mouser; Supplier Part Number 2: 863-BTA12-800CW3G; Packing: Tube; RoHS: Pb-Free; Mounting Technology: Through Hole; ComponentLink1Description: Manufacturer URL; ComponentLink1URL: http://www.onsemi.com/; ComponentLink2Description: Datasheet; ComponentLink2URL: http://www.onsemi.com/pub_link/Collateral/BTA12-600CW3-D.PDF; ComponentLink3Description: Package Specification; ComponentLink3URL: http://www.onsemi.com/pub_link/Collateral/221A-07.PDF
footprint ONSC-TO-220-3-221A-07 (FM, 3-Leads, Body 10.3x4.85mm, Pitch 2.54mm)
pins: 1 MT1, 2 MT2, 3 G

## BTA16-600BW3G
designator D?
Triacs, Silicon Bidirectional Thyristor, 3-Pin TO-220, Pb-Free, Tube; Manufacturer: On Semiconductor; PartNumber: BTA16-600BW3G; IGT Max (mA): 50; IT(RMS) Max (A): 16; ITSM Max (A): 170; DatasheetVersion: Rev. 1; PackageVersion: Rev. O, 07/2008; PackageReference: TO-220-3-221A-07; PackageDescription: 3-Pin Flange Mount, Vertical Straight Lead, Body 9.97 x 4.445 mm, Pitch 2.54 mm; Supplier 1: Digi-Key; Supplier Part Number 1: BTA16-600BW3G-ND; Supplier 2: Newark; Supplier Part Number 2: 13P2080; Supplier 3: Mouser; Supplier Part Number 3: 863-BTA16-600BW3G; Packing: Tube; RoHS: Pb-Free; Mounting Technology: Through Hole; ComponentLink1Description: Manufacturer URL; ComponentLink1URL: http://www.onsemi.com/; ComponentLink2Description: Datasheet; ComponentLink2URL: http://www.onsemi.com/pub_link/Collateral/BTA16-600BW3-D.PDF; ComponentLink3Description: Package Specification; ComponentLink3URL: http://www.onsemi.com/pub_link/Collateral/221A-07.PDF
footprint ONSC-TO-220-3-221A-07 (FM, 3-Leads, Body 10.3x4.85mm, Pitch 2.54mm)
pins: 1 MT1, 2 MT2, 3 G

## BTA16-600CW3G
designator D?
Triacs, Silicon Bidirectional Thyristor, 3-Pin TO-220, Pb-Free, Tube; Manufacturer: On Semiconductor; PartNumber: BTA16-600CW3G; IGT Max (mA): 35; IT(RMS) Max (A): 16; ITSM Max (A): 170; DatasheetVersion: Rev. 3; PackageVersion: Rev. O, 07/2008; PackageReference: TO-220-3-221A-07; PackageDescription: 3-Pin Flange Mount, Vertical Straight Lead, Body 9.97 x 4.445 mm, Pitch 2.54 mm; Supplier 1: Digi-Key; Supplier Part Number 1: BTA16-600CW3GOS-ND; Supplier 2: Farnell; Supplier Part Number 2: 2317535; Supplier 3: Newark; Supplier Part Number 3: 90W4278; Supplier 4: Newark; Supplier Part Number 4: 13P2081; Supplier 5: Mouser; Supplier Part Number 5: 863-BTA16-600CW3G; Packing: Tube; RoHS: Pb-Free; Mounting Technology: Through Hole; ComponentLink1Description: Manufacturer URL; ComponentLink1URL: http://www.onsemi.com/; ComponentLink2Description: Datasheet; ComponentLink2URL: http://www.onsemi.com/pub_link/Collateral/BTA16-600CW3-D.PDF; ComponentLink3Description: Package Specification; ComponentLink3URL: http://www.onsemi.com/pub_link/Collateral/221A-07.PDF
footprint ONSC-TO-220-3-221A-07 (FM, 3-Leads, Body 10.3x4.85mm, Pitch 2.54mm)
pins: 1 MT1, 2 MT2, 3 G

## BTA16-600SW3G
designator D?
Triacs, Silicon Bidirectional Thyristor, 3-Pin TO-220, Pb-Free, Tube; Manufacturer: On Semiconductor; PartNumber: BTA16-600SW3G; IGT Max (mA): 10; IT(RMS) Max (A): 16; ITSM Max (A): 170; DatasheetVersion: Rev. 1; PackageVersion: Rev. O, 07/2008; PackageReference: TO-220-3-221A-07; PackageDescription: 3-Pin Flange Mount, Vertical Straight Lead, Body 9.97 x 4.445 mm, Pitch 2.54 mm; Supplier 1: Digi-Key; Supplier Part Number 1: BTA16-600SW3GOS-ND; Supplier 2: Farnell; Supplier Part Number 2: 2093846; Supplier 3: Newark; Supplier Part Number 3: 52T7590; Supplier 4: Mouser; Supplier Part Number 4: 863-BTA16-600SW3G; Packing: Tube; RoHS: Pb-Free; Mounting Technology: Through Hole; ComponentLink1Description: Manufacturer URL; ComponentLink1URL: http://www.onsemi.com/; ComponentLink2Description: Datasheet; ComponentLink2URL: http://www.onsemi.com/pub_link/Collateral/BTA16-600SW3-D.PDF; ComponentLink3Description: Package Specification; ComponentLink3URL: http://www.onsemi.com/pub_link/Collateral/221A-07.PDF
footprint ONSC-TO-220-3-221A-07 (FM, 3-Leads, Body 10.3x4.85mm, Pitch 2.54mm)
pins: 1 MT1, 2 MT2, 3 G

## BTA16-800BW3G
designator D?
Triacs, Silicon Bidirectional Thyristor, 3-Pin TO-220, Pb-Free, Tube; Manufacturer: On Semiconductor; PartNumber: BTA16-800BW3G; IGT Max (mA): 50; IT(RMS) Max (A): 16; ITSM Max (A): 170; DatasheetVersion: Rev. 1; PackageVersion: Rev. O, 07/2008; PackageReference: TO-220-3-221A-07; PackageDescription: 3-Pin Flange Mount, Vertical Straight Lead, Body 9.97 x 4.445 mm, Pitch 2.54 mm; Supplier 1: Digi-Key; Supplier Part Number 1: BTA16-800BW3GOS-ND; Supplier 2: Newark; Supplier Part Number 2: 13P2082; Supplier 3: Mouser; Supplier Part Number 3: 863-BTA16-800BW3G; Packing: Tube; RoHS: Pb-Free; Mounting Technology: Through Hole; ComponentLink1Description: Manufacturer URL; ComponentLink1URL: http://www.onsemi.com/; ComponentLink2Description: Datasheet; ComponentLink2URL: http://www.onsemi.com/pub_link/Collateral/BTA16-600BW3-D.PDF; ComponentLink3Description: Package Specification; ComponentLink3URL: http://www.onsemi.com/pub_link/Collateral/221A-07.PDF
footprint ONSC-TO-220-3-221A-07 (FM, 3-Leads, Body 10.3x4.85mm, Pitch 2.54mm)
pins: 1 MT1, 2 MT2, 3 G

## BTA16-800CW3G
designator D?
Triacs, Silicon Bidirectional Thyristor, 3-Pin TO-220, Pb-Free, Tube; Manufacturer: On Semiconductor; PartNumber: BTA16-800CW3G; IGT Max (mA): 35; IT(RMS) Max (A): 16; ITSM Max (A): 170; DatasheetVersion: Rev. 3; PackageVersion: Rev. O, 07/2008; PackageReference: TO-220-3-221A-07; PackageDescription: 3-Pin Flange Mount, Vertical Straight Lead, Body 9.97 x 4.445 mm, Pitch 2.54 mm; Supplier 1: Digi-Key; Supplier Part Number 1: BTA16-800CW3GOS-ND; Supplier 2: Mouser; Supplier Part Number 2: 863-BTA16-800CW3G; Packing: Tube; RoHS: Pb-Free; Mounting Technology: Through Hole; ComponentLink1Description: Manufacturer URL; ComponentLink1URL: http://www.onsemi.com/; ComponentLink2Description: Datasheet; ComponentLink2URL: http://www.onsemi.com/pub_link/Collateral/BTA16-600CW3-D.PDF; ComponentLink3Description: Package Specification; ComponentLink3URL: http://www.onsemi.com/pub_link/Collateral/221A-07.PDF
footprint ONSC-TO-220-3-221A-07 (FM, 3-Leads, Body 10.3x4.85mm, Pitch 2.54mm)
pins: 1 MT1, 2 MT2, 3 G

## BTA16-800SW3G
designator D?
Triacs, Silicon Bidirectional Thyristor, 3-Pin TO-220, Pb-Free, Tube; Manufacturer: On Semiconductor; PartNumber: BTA16-800SW3G; IGT Max (mA): 10; IT(RMS) Max (A): 16; ITSM Max (A): 170; DatasheetVersion: Rev. 1; PackageVersion: Rev. O, 07/2008; PackageReference: TO-220-3-221A-07; PackageDescription: 3-Pin Flange Mount, Vertical Straight Lead, Body 9.97 x 4.445 mm, Pitch 2.54 mm; Supplier 1: Digi-Key; Supplier Part Number 1: BTA16-800SW3GOS-ND; Supplier 2: Farnell; Supplier Part Number 2: 1961702; Supplier 3: Newark; Supplier Part Number 3: 52T7591; Supplier 4: Mouser; Supplier Part Number 4: 863-BTA16-800SW3G; Packing: Tube; RoHS: Pb-Free; Mounting Technology: Through Hole; ComponentLink1Description: Manufacturer URL; ComponentLink1URL: http://www.onsemi.com/; ComponentLink2Description: Datasheet; ComponentLink2URL: http://www.onsemi.com/pub_link/Collateral/BTA16-600SW3-D.PDF; ComponentLink3Description: Package Specification; ComponentLink3URL: http://www.onsemi.com/pub_link/Collateral/221A-07.PDF
footprint ONSC-TO-220-3-221A-07 (FM, 3-Leads, Body 10.3x4.85mm, Pitch 2.54mm)
pins: 1 MT1, 2 MT2, 3 G

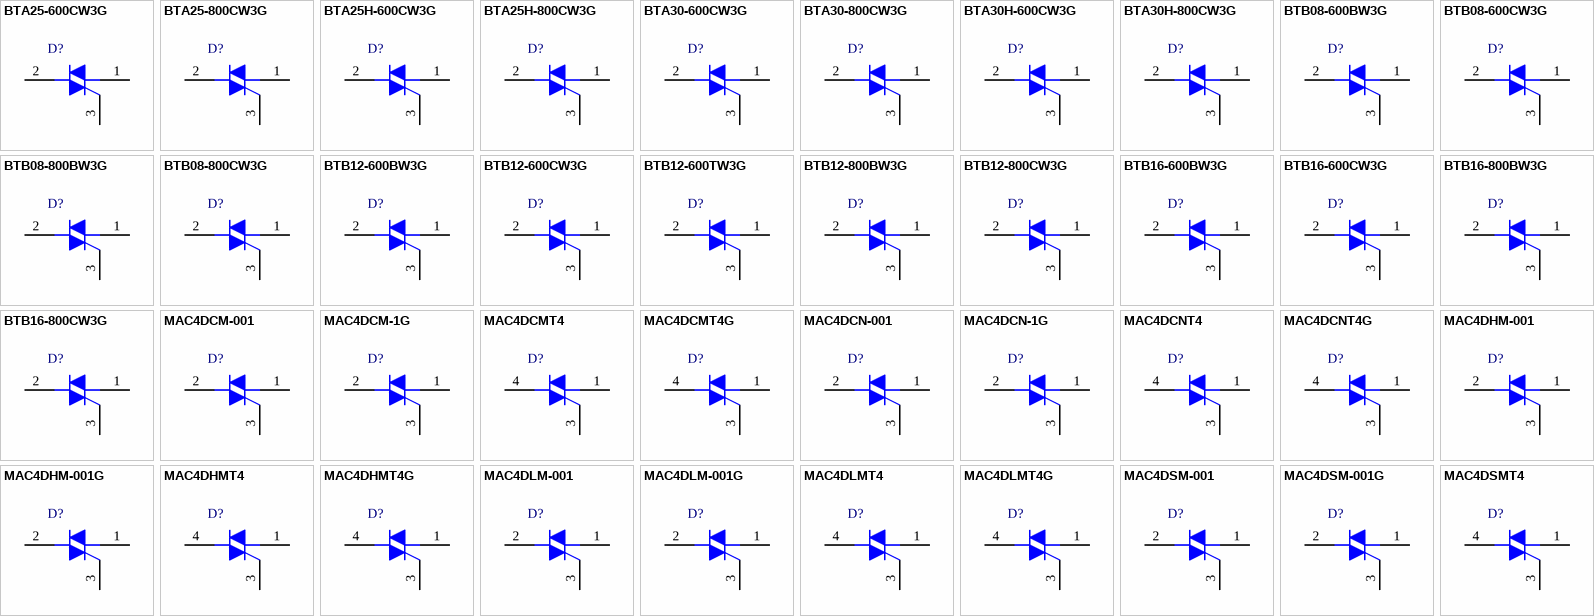
[diagram p1: symbols BTA25-600CW3G to MAC4DSMT4]

## BTA25-600CW3G
designator D?
Triacs, Silicon Bidirectional Thyristor, 3-Pin TO-220, Pb-Free, Tube; Manufacturer: On Semiconductor; PartNumber: BTA25-600CW3G; IGT Max (mA): 35; IT(RMS) Max (A): 25; ITSM Max (A): 250; DatasheetVersion: Rev. 2; PackageVersion: Rev. O, 07/2008; PackageReference: TO-220-3-221A-07; PackageDescription: 3-Pin Flange Mount, Vertical Straight Lead, Body 9.97 x 4.445 mm, Pitch 2.54 mm; Supplier 1: Digi-Key; Supplier Part Number 1: BTA25-600CW3GOS-ND; Supplier 2: Farnell; Supplier Part Number 2: 2317534; Supplier 3: Newark; Supplier Part Number 3: 90W4279; Supplier 4: Newark; Supplier Part Number 4: 05R9027; Supplier 5: Mouser; Supplier Part Number 5: 863-BTA25-600CW3G; Packing: Tube; RoHS: Pb-Free; Mounting Technology: Through Hole; ComponentLink1Description: Manufacturer URL; ComponentLink1URL: http://www.onsemi.com/; ComponentLink2Description: Datasheet; ComponentLink2URL: http://www.onsemi.com/pub_link/Collateral/BTA25-600CW3-D.PDF; ComponentLink3Description: Package Specification; ComponentLink3URL: http://www.onsemi.com/pub_link/Collateral/221A-07.PDF
footprint ONSC-TO-220-3-221A-07 (FM, 3-Leads, Body 10.3x4.85mm, Pitch 2.54mm)
pins: 1 MT1, 2 MT2, 3 G

## BTA25-800CW3G
designator D?
Triacs, Silicon Bidirectional Thyristor, 3-Pin TO-220, Pb-Free, Tube; Manufacturer: On Semiconductor; PartNumber: BTA25-800CW3G; IGT Max (mA): 35; IT(RMS) Max (A): 25; ITSM Max (A): 250; DatasheetVersion: Rev. 2; PackageVersion: Rev. O, 07/2008; PackageReference: TO-220-3-221A-07; PackageDescription: 3-Pin Flange Mount, Vertical Straight Lead, Body 9.97 x 4.445 mm, Pitch 2.54 mm; Supplier 1: Digi-Key; Supplier Part Number 1: BTA25-800CW3G-ND; Supplier 2: Newark; Supplier Part Number 2: 05R9028; Supplier 3: Mouser; Supplier Part Number 3: 863-BTA25-800CW3G; Packing: Tube; RoHS: Pb-Free; Mounting Technology: Through Hole; ComponentLink1Description: Manufacturer URL; ComponentLink1URL: http://www.onsemi.com/; ComponentLink2Description: Datasheet; ComponentLink2URL: http://www.onsemi.com/pub_link/Collateral/BTA25-600CW3-D.PDF; ComponentLink3Description: Package Specification; ComponentLink3URL: http://www.onsemi.com/pub_link/Collateral/221A-07.PDF
footprint ONSC-TO-220-3-221A-07 (FM, 3-Leads, Body 10.3x4.85mm, Pitch 2.54mm)
pins: 1 MT1, 2 MT2, 3 G

## BTA25H-600CW3G
designator D?
Triacs, Silicon Bidirectional Thyristor, 3-Pin TO-220, Pb-Free, Tube; Manufacturer: On Semiconductor; PartNumber: BTA25H-600CW3G; IGT Max (mA): 35; IT(RMS) Max (A): 25; ITSM Max (A): 250; DatasheetVersion: Rev. 0; PackageVersion: Rev. O, 07/2008; PackageReference: TO-220-3-221A-07; PackageDescription: 3-Pin Flange Mount, Vertical Straight Lead, Body 9.97 x 4.445 mm, Pitch 2.54 mm; Supplier 1: Digi-Key; Supplier Part Number 1: BTA25H-600CW3G-ND; Supplier 2: Newark; Supplier Part Number 2: 15R4106; Supplier 3: Mouser; Supplier Part Number 3: 863-BTA25H-600CW3G; Packing: Tube; RoHS: Pb-Free; Mounting Technology: Through Hole; ComponentLink1Description: Manufacturer URL; ComponentLink1URL: http://www.onsemi.com/; ComponentLink2Description: Datasheet; ComponentLink2URL: http://www.onsemi.com/pub_link/Collateral/BTA25H-600CW3-D.PDF; ComponentLink3Description: Package Specification; ComponentLink3URL: http://www.onsemi.com/pub_link/Collateral/221A-07.PDF
footprint ONSC-TO-220-3-221A-07 (FM, 3-Leads, Body 10.3x4.85mm, Pitch 2.54mm)
pins: 1 MT1, 2 MT2, 3 G

## BTA25H-800CW3G
designator D?
Triacs, Silicon Bidirectional Thyristor, 3-Pin TO-220, Pb-Free, Tube; Manufacturer: On Semiconductor; PartNumber: BTA25H-800CW3G; IGT Max (mA): 35; IT(RMS) Max (A): 25; ITSM Max (A): 250; DatasheetVersion: Rev. 0; PackageVersion: Rev. O, 07/2008; PackageReference: TO-220-3-221A-07; PackageDescription: 3-Pin Flange Mount, Vertical Straight Lead, Body 9.97 x 4.445 mm, Pitch 2.54 mm; Supplier 1: Digi-Key; Supplier Part Number 1: BTA25H-800CW3G-ND; Supplier 2: Mouser; Supplier Part Number 2: 863-BTA25H-800CW3G; Packing: Tube; RoHS: Pb-Free; Mounting Technology: Through Hole; ComponentLink1Description: Manufacturer URL; ComponentLink1URL: http://www.onsemi.com/; ComponentLink2Description: Datasheet; ComponentLink2URL: http://www.onsemi.com/pub_link/Collateral/BTA25H-600CW3-D.PDF; ComponentLink3Description: Package Specification; ComponentLink3URL: http://www.onsemi.com/pub_link/Collateral/221A-07.PDF
footprint ONSC-TO-220-3-221A-07 (FM, 3-Leads, Body 10.3x4.85mm, Pitch 2.54mm)
pins: 1 MT1, 2 MT2, 3 G

## BTA30-600CW3G
designator D?
Triacs, Silicon Bidirectional Thyristor, 3-Pin TO-220, Pb-Free, Tube; Manufacturer: On Semiconductor; PartNumber: BTA30-600CW3G; IGT Max (mA): 35; IT(RMS) Max (A): 30; ITSM Max (A): 400; DatasheetVersion: Rev. 1; PackageVersion: Rev. O, 07/2008; PackageReference: TO-220-3-221A-07; PackageDescription: 3-Pin Flange Mount, Vertical Straight Lead, Body 9.97 x 4.445 mm, Pitch 2.54 mm; Supplier 1: Digi-Key; Supplier Part Number 1: BTA30-600CW3G-ND; Supplier 2: Newark; Supplier Part Number 2: 05R9029; Supplier 3: Mouser; Supplier Part Number 3: 863-BTA30-600CW3G; Packing: Tube; RoHS: Pb-Free; Mounting Technology: Through Hole; ComponentLink1Description: Manufacturer URL; ComponentLink1URL: http://www.onsemi.com/; ComponentLink2Description: Datasheet; ComponentLink2URL: http://www.onsemi.com/pub_link/Collateral/BTA30-600CW3-D.PDF; ComponentLink3Description: Package Specification; ComponentLink3URL: http://www.onsemi.com/pub_link/Collateral/221A-07.PDF
footprint ONSC-TO-220-3-221A-07 (FM, 3-Leads, Body 10.3x4.85mm, Pitch 2.54mm)
pins: 1 MT1, 2 MT2, 3 G

## BTA30-800CW3G
designator D?
Triacs, Silicon Bidirectional Thyristor, 3-Pin TO-220, Pb-Free, Tube; Manufacturer: On Semiconductor; PartNumber: BTA30-800CW3G; IGT Max (mA): 35; IT(RMS) Max (A): 30; ITSM Max (A): 400; DatasheetVersion: Rev. 1; PackageVersion: Rev. O, 07/2008; PackageReference: TO-220-3-221A-07; PackageDescription: 3-Pin Flange Mount, Vertical Straight Lead, Body 9.97 x 4.445 mm, Pitch 2.54 mm; Supplier 1: Digi-Key; Supplier Part Number 1: BTA30-800CW3G-ND; Supplier 2: Newark; Supplier Part Number 2: 05R9030; Supplier 3: Mouser; Supplier Part Number 3: 863-BTA30-800CW3G; Packing: Tube; RoHS: Pb-Free; Mounting Technology: Through Hole; ComponentLink1Description: Manufacturer URL; ComponentLink1URL: http://www.onsemi.com/; ComponentLink2Description: Datasheet; ComponentLink2URL: http://www.onsemi.com/pub_link/Collateral/BTA30-600CW3-D.PDF; ComponentLink3Description: Package Specification; ComponentLink3URL: http://www.onsemi.com/pub_link/Collateral/221A-07.PDF
footprint ONSC-TO-220-3-221A-07 (FM, 3-Leads, Body 10.3x4.85mm, Pitch 2.54mm)
pins: 1 MT1, 2 MT2, 3 G

## BTA30H-600CW3G
designator D?
Triacs, Silicon Bidirectional Thyristor, 3-Pin TO-220, Pb-Free, Tube; Manufacturer: On Semiconductor; PartNumber: BTA30H-600CW3G; IGT Max (mA): 35; IT(RMS) Max (A): 30; ITSM Max (A): 400; DatasheetVersion: Rev. 0; PackageVersion: Rev. O, 07/2008; PackageReference: TO-220-3-221A-07; PackageDescription: 3-Pin Flange Mount, Vertical Straight Lead, Body 9.97 x 4.445 mm, Pitch 2.54 mm; Supplier 1: Digi-Key; Supplier Part Number 1: BTA30H-600CW3G-ND; Supplier 2: Newark; Supplier Part Number 2: 15R4108; Supplier 3: Mouser; Supplier Part Number 3: 863-BTA30H-600CW3G; Packing: Tube; RoHS: Pb-Free; Mounting Technology: Through Hole; ComponentLink1Description: Manufacturer URL; ComponentLink1URL: http://www.onsemi.com/; ComponentLink2Description: Datasheet; ComponentLink2URL: http://www.onsemi.com/pub_link/Collateral/BTA30H-600CW3-D.PDF; ComponentLink3Description: Package Specification; ComponentLink3URL: http://www.onsemi.com/pub_link/Collateral/221A-07.PDF
footprint ONSC-TO-220-3-221A-07 (FM, 3-Leads, Body 10.3x4.85mm, Pitch 2.54mm)
pins: 1 MT1, 2 MT2, 3 G

## BTA30H-800CW3G
designator D?
Triacs, Silicon Bidirectional Thyristor, 3-Pin TO-220, Pb-Free, Tube; Manufacturer: On Semiconductor; PartNumber: BTA30H-800CW3G; IGT Max (mA): 35; IT(RMS) Max (A): 30; ITSM Max (A): 400; DatasheetVersion: Rev. 0; PackageVersion: Rev. O, 07/2008; PackageReference: TO-220-3-221A-07; PackageDescription: 3-Pin Flange Mount, Vertical Straight Lead, Body 9.97 x 4.445 mm, Pitch 2.54 mm; Supplier 1: Digi-Key; Supplier Part Number 1: BTA30H-800CW3G-ND; Supplier 2: Mouser; Supplier Part Number 2: 863-BTA30H-800CW3G; Packing: Tube; RoHS: Pb-Free; Mounting Technology: Through Hole; ComponentLink1Description: Manufacturer URL; ComponentLink1URL: http://www.onsemi.com/; ComponentLink2Description: Datasheet; ComponentLink2URL: http://www.onsemi.com/pub_link/Collateral/BTA30H-600CW3-D.PDF; ComponentLink3Description: Package Specification; ComponentLink3URL: http://www.onsemi.com/pub_link/Collateral/221A-07.PDF
footprint ONSC-TO-220-3-221A-07 (FM, 3-Leads, Body 10.3x4.85mm, Pitch 2.54mm)
pins: 1 MT1, 2 MT2, 3 G